# Altium schematic symbol library SCH - AMP AUDIO - DIODES INC PAM8908JER.SchLib: 1 symbol
Pins are listed as number, name and electrical type; pins without a type are passive.

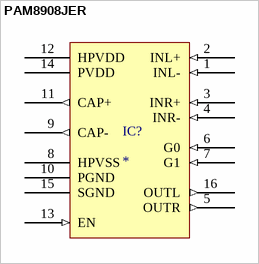
[diagram p0: symbol PAM8908JER]

## PAM8908JER
designator IC?
IC AMP CLASS D STER 35MW 16TQFN; Part Number: PAM8908JER; Manufacturer: Diodes Incorporated; Max Output Power x Channels @ Load: 35mW x 2 @ 16Ohm; Output Type: 2-Channel (Stereo); Voltage - Supply: 2.5V ~ 5.5V; ComponentLink1Description: DigiKey Link; ComponentLink1URL: https://www.digikey.com/en/products/detail/diodes-incorporated/PAM8908JER/4033382?utm_adgroup=Amplifiers&utm_source=google&utm_medium=cpc&utm_campaign=Dynamic%20Search_EN_Product&utm_term=&utm_content=Amplifiers&gclid=CjwKCAjw_aemBhBLEiwAT98FMgnW0ci_NS5gsX45I82LdGASj5mOzcnwqDXFOgSybYCbwqgicGJNxxoC68kQAvD_BwE; ComponentLink2Description: Datasheet; ComponentLink2URL: https://www.diodes.com/assets/Datasheets/products_inactive_data/PAM8908.pdf; Device Package: U-QFN3030-16; Features: Charge Pump, Differential or Single-Ended Inputs, Short-Circuit and Over-Temperature Protection, Shutdown; Last Updated: 8/3/2023 5:49:50 PM; Lifecycle Status: 0; Minimum Order: 1; Mounting Type: Surface Mount; Operating Temperature: -40°C ~ 85°C (TA); Package / Case: 16-UFQFN Exposed Pad; Packaging: TapeAndReel; PartId: 7; Part Status: Active; Price: 0.91; Series: PAM8; Supplier 1: DigiKey; Supplier Part Number 1: PAM8908JERDITR-ND; Supplier Device Package: U-QFN3030-16; Type: Class D
footprint PAM8908JER
pins: 1 INL- (in) "Inverting left input for differential signals", 2 INL+ (in) "Non-inverting left input for differential signals", 3 INR+ (in) "Inverting right input for differential signals", 4 INR- (in) "Non-inverting right input for differential signals", 5 OUTR (out) "Right headphone amplifier output. Connect to right terminal of headphone jack", 6 G0 (in) "Gain select bit 0", 7 G1 (in) "Gain select bit 1", 8 HPVSS (power) "Charge pump output and negative power supply for output amplifiers; connect 1μF capacitor to GND", 9 CAP- (out) "Charge pump negative flying cap", 10 PGND (power) "Power Ground", 11 CAP+ (out) "Charge pump positive flying cap", 12 HPVDD (power) "Positive power supply for headphone amplifiers. Charge pump positive half VDD output", 13 EN (in) "Amplifier enabled. Connect to logic low to shut down; connect to logic high to activate", 14 PVDD (power) "Power VDD", 15 SGND (power) "Amplifier reference voltage", 16 OUTL (out) "Left headphone amplifier output. Connect to left terminal of headphone jack"